# EAGLE library part AT32UC3B0 (library at32uc3)
The AT32UC3B is a complete System-On-Chip microcontroller based on the AVR32 UC RISC processor running at frequencies up to 60 MHz. AVR32 UC is a high-performance 32-bit RISC microprocessor core, designed for cost-sensitive embedded applications, with particular empha- sis on low power consumption, high code density and high performance.
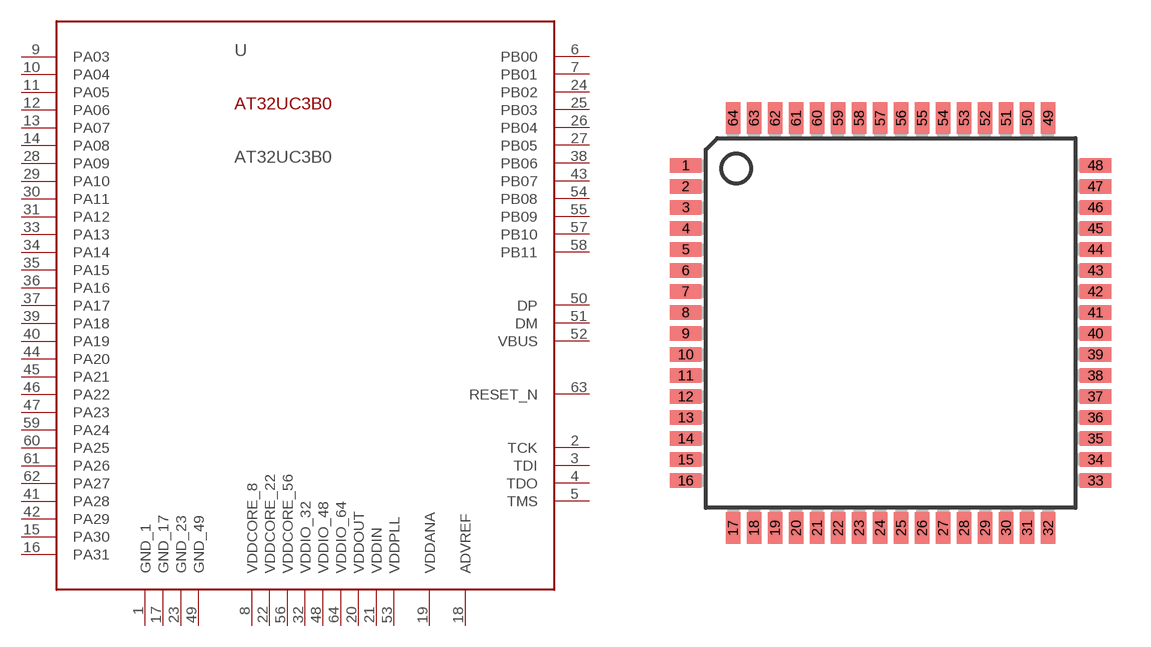
[diagram p0: symbol with the pads of TQFP64; footprint TQFP64]

Designator prefix -

## AT32UC3B0  [TQFP64]
1  GND_1  pwr
2  TCK  in
3  TDI  in
4  TDO  out
5  TMS  in
6  PB00
7  PB01
8  VDDCORE_8  pwr
9  PA03
10  PA04
11  PA05
12  PA06
13  PA07
14  PA08
15  PA30
16  PA31
17  GND_17  pwr
18  ADVREF  pwr
19  VDDANA  pwr
20  VDDOUT  pwr
21  VDDIN  pwr
22  VDDCORE_22  pwr
23  GND_23  pwr
24  PB02
25  PB03
26  PB04
27  PB05
28  PA09
29  PA10
30  PA11
31  PA12
32  VDDIO_32  pwr
33  PA13
34  PA14
35  PA15
36  PA16
37  PA17
38  PB06
39  PA18
40  PA19
41  PA28
42  PA29
43  PB07
44  PA20
45  PA21
46  PA22
47  PA23
48  VDDIO_48  pwr
49  GND_49  pwr
50  DP
51  DM
52  VBUS  pwr
53  VDDPLL  pwr
54  PB08
55  PB09
56  VDDCORE_56  pwr
57  PB10
58  PB11
59  PA24
60  PA25
61  PA26
62  PA27
63  RESET_N  in
64  VDDIO_64  pwr

## Footprint TQFP64 (pad centres in mm)
TQFP64 package
smd 1.194 x 0.559: 1 -7.8,6; 2 -7.8,5.2; 3 -7.8,4.4; 4 -7.8,3.6; 5 -7.8,2.8; 6 -7.8,2; 7 -7.8,1.2; 8 -7.8,0.4; 9 -7.8,-0.4; 10 -7.8,-1.2; 11 -7.8,-2; 12 -7.8,-2.8; 13 -7.8,-3.6; 14 -7.8,-4.4; 15 -7.8,-5.2; 16 -7.8,-6; 33 7.8,-6; 34 7.8,-5.2; 35 7.8,-4.4; 36 7.8,-3.6; 37 7.8,-2.8; 38 7.8,-2; 39 7.8,-1.2; 40 7.8,-0.4; 41 7.8,0.4; 42 7.8,1.2; 43 7.8,2; 44 7.8,2.8; 45 7.8,3.6; 46 7.8,4.4; 47 7.8,5.2; 48 7.8,6
smd 0.559 x 1.194: 17 -6,-7.8; 18 -5.2,-7.8; 19 -4.4,-7.8; 20 -3.6,-7.8; 21 -2.8,-7.8; 22 -2,-7.8; 23 -1.2,-7.8; 24 -0.4,-7.8; 25 0.4,-7.8; 26 1.2,-7.8; 27 2,-7.8; 28 2.8,-7.8; 29 3.6,-7.8; 30 4.4,-7.8; 31 5.2,-7.8; 32 6,-7.8; 49 6,7.8; 50 5.2,7.8; 51 4.4,7.8; 52 3.6,7.8; 53 2.8,7.8; 54 2,7.8; 55 1.2,7.8; 56 0.4,7.8; 57 -0.4,7.8; 58 -1.2,7.8; 59 -2,7.8; 60 -2.8,7.8; 61 -3.6,7.8; 62 -4.4,7.8; 63 -5.2,7.8; 64 -6,7.8